# EAGLE library part MCP79410-I/SN (library MCP79410)
MCP79410 Series 5.5 V I2C Real-Time Clock/Calendar with EEPROM SRAM-SOIC-8
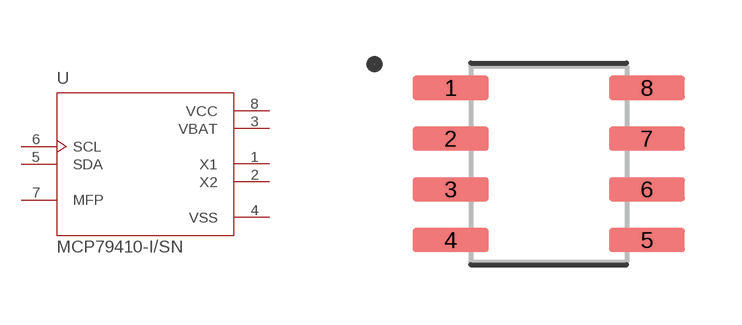
[diagram p0: symbol with the pads of SOIC127P600X175-8N; footprint SOIC127P600X175-8N]

Designator prefix U

## MCP79410-I/SN (Description: MCP79410 Series 5.5 V I2C Real-Time Clock/Calendar with EEPROM SRAM-SOIC-8; Digi-Key_Part_Number: MCP79410-I/SN-ND; Digi-Key_Purchase_URL: https://www.digikey.de/product-detail/en/microchip-technology/MCP79410-I-SN/MCP79410-I-SN-ND/2480419?utm_source=snapeda&utm_medium=aggregator&utm_campaign=symbol; MF: Microchip; MP: MCP79410-I/SN; Package: SO-8 Microchip)  [SOIC127P600X175-8N]
1  X1  in
2  X2  out
3  VBAT  pwr
4  VSS  pwr
5  SDA
6  SCL  in
7  MFP
8  VCC  pwr

## Footprint SOIC127P600X175-8N (pad centres in mm)
smd 1.9 x 0.6: 1 -2.455,1.905; 2 -2.455,0.635; 3 -2.455,-0.635; 4 -2.455,-1.905; 5 2.455,-1.905; 6 2.455,-0.635; 7 2.455,0.635; 8 2.455,1.905